# Altium footprint library PcbLib1.PcbLib: 123 footprints (part 6 of 8)
Each footprint in its own frame and in the unit in brackets; x right, y up, seen from the top. Pads: shape width x height; smd on the part's side, far side on the other; paste and mask are expansions set on the pad; w line width, h text height; cw(c..) or ccw(c..) is an arc to the next point about the centre after c.
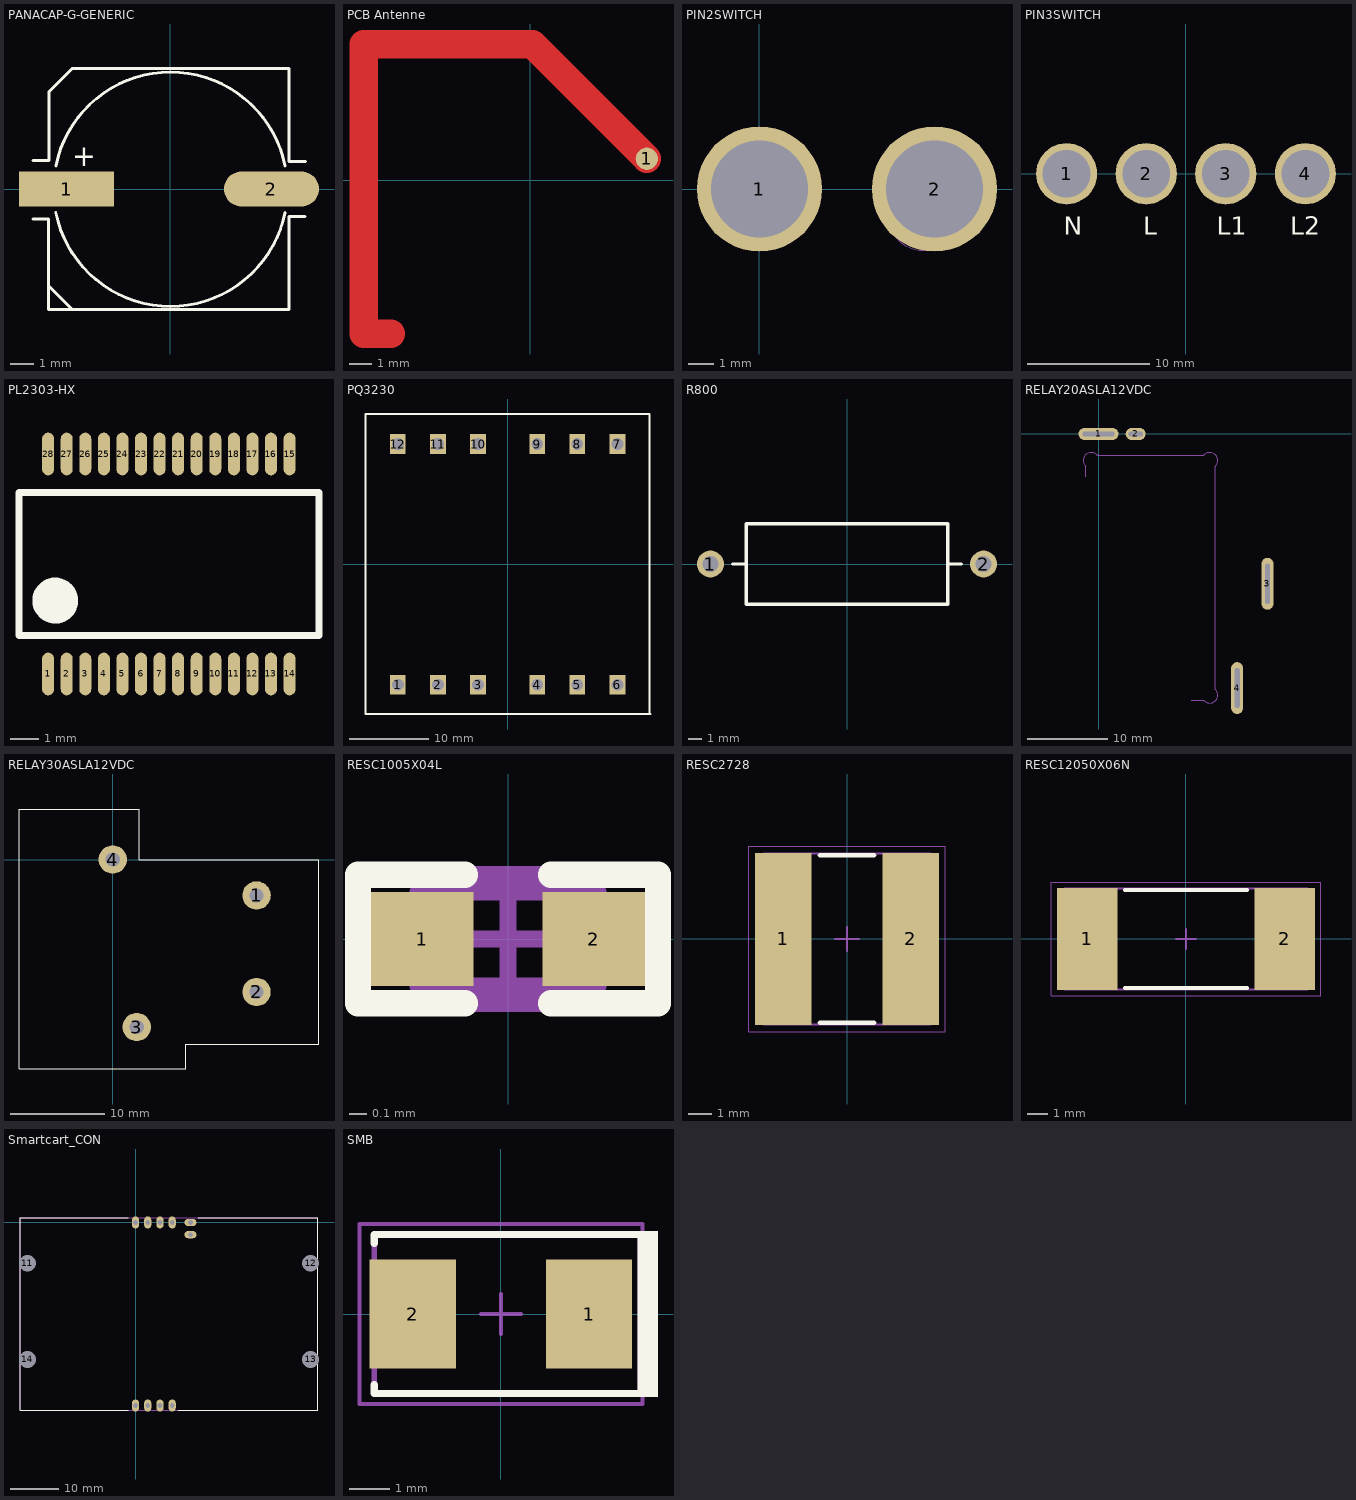
[diagram p5: the footprints below, top view; thin cyan lines are the x and y axes]

## PANACAP-G-GENERIC [mil]
pads (2):
  rect 160x59.06 smd: 1(-175,0)
  oval 160x59.06 smd: 2(170,0)
Top Overlay:
  lines w5: -231.3,-50.2 -205.71,-50.2 ; -231.3,48.23 -205.71,48.23 ; -205.71,-163.39 -205.71,-50.2 ; -205.71,-104.33 -205.71,-50.2 ; -204.72,-163.39 -165.35,-202.76 ; -204.72,48.23 -204.72,163.39 -165.35,202.76 199.8,202.76 199.8,46.26 227.36,46.26 ; -193.14,-39.37 ccw(c-0.11,-0.76) 192.91,-39.37 ; -193.03,38.61 cw(c0,0) 193.03,38.61 ; 226.38,-46.26 199.8,-46.26 ; -205.71,-202.76 199.8,-202.76 199.8,-46.26 ; -205.71,-202.76 -205.71,-202.76 ; -205.71,-202.76 -205.71,-50.2 ; -205.71,-129.92 -205.71,-129.92 ; -205.71,-129.92 -205.71,-50.2 ; 199.8,-46.26 199.8,-46.26
  text "+" at -165.35,38.39 h35
3D body: height 401.57, standoff 0, extent -233.35,-202.75 223.34,202.76

## PCB Antenne [mm]
height 4
pads (1):
  round 1 smd: 1(5.225,0.971)
Top Layer:
  lines w0.762: -7.731,-6.825 -7.477,-6.851 ; 5.2,0.907 5.2,0.945
  lines w1.27: -7.477,-6.876 -6.251,-6.876 ; -7.477,-6.851 -7.477,6.103 0.092,6.103 ; 5.225,0.971 0.092,6.103 ; 0.092,6.103 0.093,6.103

## PCBComponent_1 [mm]

## PCBComponent_1 - duplicate [mm]

## PIN2SWITCH [mm]
pads (2):
  round 5 hole 3.9: 1(0,0) 2(7,0)
Mechanical 1:
  lines w0.013: -1.005,-1.663 ccw(c-0.005,-0.048) 0.995,-1.663 ; -1.005,-1.663 -0.991,-1.655 -0.977,-1.648 -0.963,-1.639 -0.948,-1.631 -0.933,-1.623 -0.918,-1.614 -0.905,-1.606 ; -1.005,-1.663 -1.005,1.568 ; -1.005,1.568 cw(c-0.005,-0.048) 0.995,1.568 ; -1.005,1.568 -0.991,1.56 -0.977,1.552 -0.963,1.544 -0.948,1.536 -0.933,1.528 -0.918,1.519 -0.905,1.511 ; -0.905,-1.606 ccw(c-0.005,-0.048) 0.895,-1.606 ; -0.905,-1.606 -0.905,1.511 ; -0.905,1.511 cw(c-0.005,-0.048) 0.895,1.511 ; 0.895,-1.606 0.899,-1.609 0.914,-1.617 0.928,-1.625 0.942,-1.633 0.955,-1.641 0.969,-1.648 0.982,-1.656 0.995,-1.663 ; 0.895,-1.606 0.895,1.511 ; 0.895,1.511 0.91,1.52 0.924,1.528 0.938,1.536 0.952,1.544 0.966,1.551 0.979,1.559 0.992,1.566 0.995,1.568 ; 0.995,-1.663 0.995,1.568 ; 5.495,-1.663 ccw(c6.495,-0.048) 7.495,-1.663 ; 5.495,-1.663 5.506,-1.657 5.518,-1.651 5.529,-1.644 5.541,-1.638 5.552,-1.631 5.564,-1.624 5.576,-1.617 5.588,-1.61 5.595,-1.606 ; 5.495,-1.663 5.495,1.568 ; 5.495,1.568 cw(c6.495,-0.048) 7.495,1.568 ; 5.495,1.568 5.506,1.562 5.518,1.555 5.529,1.549 5.541,1.542 5.552,1.536 5.564,1.529 5.576,1.522 5.588,1.515 5.595,1.511 ; 5.595,-1.606 ccw(c6.495,-0.048) 7.395,-1.606 ; 5.595,-1.606 5.595,1.511 ; 5.595,1.511 cw(c6.495,-0.048) 7.395,1.511 ; 7.395,-1.606 7.402,-1.61 7.414,-1.617 7.426,-1.624 7.438,-1.631 7.45,-1.638 7.461,-1.644 7.473,-1.651 7.484,-1.657 7.495,-1.663 ; 7.395,-1.606 7.395,1.511 ; 7.395,1.511 7.408,1.518 7.42,1.525 7.432,1.532 7.444,1.539 7.455,1.546 7.467,1.552 7.478,1.559 7.49,1.565 7.495,1.568 ; 7.495,-1.663 7.495,1.568 ; -1.305,-1.148 ccw(c-0.005,-1.148) 1.295,-1.148 1.295,1.052 ccw(c-0.005,1.052) -1.305,1.052 -1.305,-1.148 ; 5.195,-1.148 ccw(c6.495,-1.148) 7.795,-1.148 7.795,1.052 ccw(c6.495,1.052) 5.195,1.052 5.195,-1.148

## PIN3SWITCH [mm]
pads (4):
  round 5 hole 3.9: 1(-9.75,0) 2(-3.25,0) 3(3.25,0) 4(9.75,0)
Top Overlay:
  text "L2" at 8.5,-5 h1.5
  text "L1" at 2.5,-5 h1.5
  text "L" at -3.5,-5 h1.5
  text "N" at -10,-5 h1.5
Mechanical 1:
  lines w0.013: -10.755,-1.663 ccw(c-9.755,-0.048) -8.755,-1.663 ; -10.755,-1.663 -10.755,1.568 ; -10.755,-1.663 -10.741,-1.655 -10.727,-1.648 -10.713,-1.639 -10.698,-1.631 -10.683,-1.623 -10.668,-1.614 -10.655,-1.606 ; -10.755,1.568 cw(c-9.755,-0.048) -8.755,1.568 ; -10.755,1.568 -10.741,1.56 -10.727,1.552 -10.713,1.544 -10.698,1.536 -10.683,1.528 -10.668,1.519 -10.655,1.511 ; -10.655,-1.606 ccw(c-9.755,-0.048) -8.855,-1.606 ; -10.655,-1.606 -10.655,1.511 ; -10.655,1.511 cw(c-9.755,-0.048) -8.855,1.511 ; -8.855,-1.606 -8.855,1.511 ; -8.855,-1.606 -8.851,-1.609 -8.836,-1.617 -8.822,-1.625 -8.808,-1.633 -8.795,-1.641 -8.781,-1.648 -8.768,-1.656 -8.755,-1.663 ; -8.855,1.511 -8.84,1.52 -8.826,1.528 -8.812,1.536 -8.798,1.544 -8.784,1.551 -8.771,1.559 -8.758,1.566 -8.755,1.568 ; -8.755,-1.663 -8.755,1.568 ; -4.255,-1.663 ccw(c-3.255,-0.048) -2.255,-1.663 ; -4.255,-1.663 -4.255,1.568 ; -4.255,-1.663 -4.244,-1.657 -4.232,-1.651 -4.221,-1.644 -4.209,-1.638 -4.198,-1.631 -4.186,-1.624 -4.174,-1.617 -4.162,-1.61 -4.155,-1.606 ; -4.255,1.568 cw(c-3.255,-0.048) -2.255,1.568 ; -4.255,1.568 -4.244,1.562 -4.232,1.555 -4.221,1.549 -4.209,1.542 -4.198,1.536 -4.186,1.529 -4.174,1.522 -4.162,1.515 -4.155,1.511 ; -4.155,-1.606 ccw(c-3.255,-0.048) -2.355,-1.606 ; -4.155,-1.606 -4.155,1.511 ; -4.155,1.511 cw(c-3.255,-0.048) -2.355,1.511 ; -2.355,-1.606 -2.355,1.511 ; -2.355,-1.606 -2.348,-1.61 -2.336,-1.617 -2.324,-1.624 -2.312,-1.631 -2.3,-1.638 -2.289,-1.644 -2.277,-1.651 -2.266,-1.657 -2.255,-1.663 ; -2.355,1.511 -2.342,1.518 -2.33,1.525 -2.318,1.532 -2.306,1.539 -2.295,1.546 -2.283,1.552 -2.272,1.559 -2.26,1.565 -2.255,1.568 ; -2.255,-1.663 -2.255,1.568 ; 2.245,-1.663 ccw(c3.245,-0.048) 4.245,-1.663 ; 2.245,-1.663 2.245,1.568 ; 2.245,-1.663 2.259,-1.655 2.273,-1.648 2.287,-1.639 2.302,-1.631 2.317,-1.623 2.332,-1.614 2.345,-1.606 ; 2.245,1.568 cw(c3.245,-0.048) 4.245,1.568 ; 2.245,1.568 2.259,1.56 2.273,1.552 2.287,1.544 2.302,1.536 2.317,1.528 2.332,1.519 2.345,1.511 ; 2.345,-1.606 ccw(c3.245,-0.048) 4.145,-1.606 ; 2.345,-1.606 2.345,1.511 ; 2.345,1.511 cw(c3.245,-0.048) 4.145,1.511 ; 4.145,-1.606 4.145,1.511 ; 4.145,-1.606 4.159,-1.614 4.174,-1.623 4.188,-1.631 4.203,-1.639 4.217,-1.648 4.231,-1.655 4.245,-1.663 ; 4.145,1.511 4.16,1.52 4.174,1.528 4.188,1.536 4.202,1.544 4.216,1.551 4.229,1.559 4.242,1.566 4.245,1.568 ; 4.245,-1.663 4.245,1.568 ; -11.055,-1.148 ccw(c-9.755,-1.148) -8.455,-1.148 -8.455,1.052 ccw(c-9.755,1.052) -11.055,1.052 -11.055,-1.148 ; -4.555,-1.148 ccw(c-3.255,-1.148) -1.955,-1.148 -1.955,1.052 ccw(c-3.255,1.052) -4.555,1.052 -4.555,-1.148 ; 1.945,-1.148 ccw(c3.245,-1.148) 4.545,-1.148 4.545,1.052 ccw(c3.245,1.052) 1.945,1.052 1.945,-1.148

## PL2303-HX [mil]
pads (28):
  oval 16.53x59.03 smd mask+7.9: 1(749.3,913.5) 2(774.9,913.5) 3(800.48,913.5) 4(826.08,913.5) 5(851.67,913.5) 6(877.27,913.5) 7(902.87,913.5) 8(928.45,913.5) 9(954.05,913.5) 10(979.65,913.5) 11(1005.23,913.5) 12(1030.83,913.5) 13(1056.42,913.5) 14(1082,913.5) 15(1082,1216.68) 16(1056.42,1216.68) 17(1030.83,1216.68) 18(1005.23,1216.68) 19(979.65,1216.68) 20(954.05,1216.68) 21(928.45,1216.68) 22(902.87,1216.68) 23(877.27,1216.68) 24(851.67,1216.68) 25(826.08,1216.68) 26(800.48,1216.68) 27(774.9,1216.68) 28(749.3,1216.68)
Top Overlay:
  circle w39.37: c759.15,1014.68 r11.88
  lines w10: 709.13,966.65 1122.57,966.65 1122.57,1163.52 709.13,1163.52 709.13,966.65

## PQ3230 [mm]
pads (12):
  rect 2x2.5 hole 1.5: 1(-13.905,-15.24) 2(-8.825,-15.24) 3(-3.745,-15.24) 4(3.745,-15.24) 5(8.825,-15.24) 6(13.905,-15.24) 7(13.905,15.24) 8(8.825,15.24) 9(3.745,15.24) 10(-3.745,15.24) 11(-8.825,15.24) 12(-13.905,15.24)
Top Overlay:
  lines w0.254: -18,-18.95 -18,19.05 18,19.05 18,-18.95 ; -17.9,-18.95 18.1,-18.95

## R800 [mm]
pads (2):
  round 2 hole 1.2: 1(-10.16,0) 2(10.16,0)
Top Overlay:
  lines w0.254: -8.5,0 -7.5,0 ; 7.5,0 8.5,0 ; -7.5,-3 -7.5,3 7.5,3 7.5,-3 -7.5,-3

## RELAY20ASLA12VDC [mm]
pads (4):
  oval 5x1.5 hole 0.6 slot 4 at 0 deg paste+0: 1(0,0)
  oval 2.5x1.5 hole 0.6 slot 1.8 at 0 deg paste+0: 2(4.65,0)
  oval 1.5x6.5 hole 0.6 slot 5 at 90 deg paste+0: 3(21.15,-18.75) 4(17.35,-31.8)
Mechanical 13:
  lines w0.01: 0,-0.28 0,0.28 ; 4.65,-0.28 4.65,0.28 ; 17.07,-31.8 17.63,-31.8 ; 20.87,-18.75 21.43,-18.75
  lines w0.013: -1.6,-5.358 -1.6,-4.063 cw(c-0.928,-3.322) -0.187,-2.65 13.187,-2.65 cw(c13.928,-3.322) 14.6,-4.063 14.6,-31.937 cw(c13.928,-32.678) 13.187,-33.35 11.6,-33.35 ; -1.4,-0.28 cw(c-1.4,0) -1.4,0.28 1.4,0.28 cw(c1.4,0) 1.4,-0.28 -1.4,-0.28 ; 4.15,-0.28 cw(c4.15,0) 4.15,0.28 5.15,0.28 cw(c5.15,0) 5.15,-0.28 4.15,-0.28 ; 17.07,-33.7 ccw(c17.35,-33.7) 17.63,-33.7 17.63,-33.55 17.63,-29.9 ccw(c17.35,-29.9) 17.07,-29.9 17.07,-33.7 ; 20.87,-20.65 ccw(c21.15,-20.65) 21.43,-20.65 21.43,-16.85 ccw(c21.15,-16.85) 20.87,-16.85 20.87,-20.65
3D body: height 19.8, standoff -8.5, extent -1.595,-33.68 21.305,0.37

## RELAY30ASLA12VDC [mm]
pads (4):
  round 3 hole 1.5 paste+0 mask+0: 1(15.202,-3.8) 2(15.2,-14) 3(2.54,-17.7) 4(0,0)
Top Overlay:
  lines w0.1: -9.9,-22.1 7.7,-22.1 7.7,-19.5 21.8,-19.5 21.8,0 2.8,0 2.8,5.3 -9.9,5.3 -9.9,-22.1
Mechanical 1:
  circle w0.013: c15.2,-3.8 r0.4
  circle w0.013: c2.54,-17.7 r0.85
  circle w0.013: c15.2,-14 r0.4
  circle w0.013: c0,0 r0.85

## RESC1005X04L [mm] "Chip Resistor, 2-Leads, Body 1.0x0.5mm, IPC High Density"
height 0.4
pads (2):
  rect 0.6x0.55 smd: 1(-0.5,0) 2(0.5,0)
Top Overlay:
  lines w0.152: -0.25,-0.375 -0.875,-0.375 -0.875,0.375 -0.25,0.375 ; 0.25,-0.375 0.875,-0.375 0.875,0.375 0.25,0.375
Mechanical 13:
  lines w0.1: -0.525,-0.275 -0.525,0.275 0.525,0.275 0.525,-0.275 -0.525,-0.275
Mechanical 15:
  lines w0.1: -0.275,0 0.275,0 ; 0,-0.275 0,0.275 ; -0.875,-0.375 0.875,-0.375 0.875,0.375 -0.875,0.375 -0.875,-0.375
3D body: height 0.3, standoff 0, extent -0.5,-0.25 0.5,0.25

## RESC2728 [mm] "Chip Resistor, 2-Leads, Body 6.9x7.1mm, IPC Medium Density"
height 0.6
pads (2):
  rect 2.4x7.35 smd: 1(-2.725,0) 2(2.725,0)
Top Overlay:
  lines w0.2: -1.15,-3.575 1.15,-3.575 ; -1.15,3.575 1.15,3.575
Mechanical 13:
  lines w0.1: -3.55,-3.65 3.55,-3.65 3.55,3.65 -3.55,3.65 -3.55,-3.65
Mechanical 15:
  lines w0.05: -4.2,-3.95 4.2,-3.95 4.2,3.95 -4.2,3.95 -4.2,-3.95
  lines w0.1: -0.5,0 0.5,0 ; 0,-0.5 0,0.5
3D body: height 0.6, standoff 0, extent 1.55,-3.65 3.55,3.65
3D body: height 0.6, standoff 0, extent -3.55,-3.65 -1.55,3.65
3D body: height 0.6, standoff 0, extent -1.55,-3.65 1.55,3.65

## RESC12050X06N [mm] "Chip Resistor, 2-Leads, Body 12.00x5.00mm, IPC Medium Density"
height 0.6
pads (2):
  rect 3x5.05 smd: 1(-4.875,0) 2(4.875,0)
Top Overlay:
  lines w0.2: -3,-2.425 3,-2.425 ; -3,2.425 3,2.425
Mechanical 13:
  lines w0.1: -6,-2.5 -6,2.5 6,2.5 6,-2.5 -6,-2.5
Mechanical 15:
  lines w0.05: -6.65,-2.8 -6.65,2.8 6.65,2.8 6.65,-2.8 -6.65,-2.8
  lines w0.1: -0.5,0 0.5,0 ; 0,-0.5 0,0.5
3D body: height 0.6, standoff 0, extent -3.4,-2.5 3.4,2.5
3D body: height 0.6, standoff 0, extent -6,-2.5 -3.4,2.5
3D body: height 0.6, standoff 0, extent 3.4,-2.5 6,2.5

## Smartcart_CON [mm]
pads (14):
  oval 1.5x2.5 hole 1 paste+0 mask+0: 1(0,0) 2(2.54,0) 3(5.08,0) 4(7.62,0) 5(0,-38.1) 6(2.54,-38.1) 7(5.08,-38.1) 8(7.62,-38.1)
  oval 2.5x1.5 hole 1 paste+0 mask+0: 9(11.43,0) 10(11.43,-2.54)
  round 3 hole 3.5 paste+0 mask+0: 11(-22.5,-8.5) 12(36.425,-8.5) 13(36.425,-28.5) 14(-22.5,-28.5)
Top Overlay:
  lines w0.2: -1.53,1 -24,1 -24,-39.1 -1.5,-39.1 ; 8.93,-39.1 37.93,-39.1 37.93,1 13.03,1
Mechanical 3:
  lines w0.2: -24,-39.1 -24,0.932 -23.932,1 37.93,1 37.93,0 37.93,-39.1 -24,-39.1

## SMB [mm] "Molded Diode, 2-Leads, Body 5.4x3.6mm, IPC Medium Density, based on OnSemi component dimensions"
height 2.45
pads (2):
  rect 2.159x2.743 smd: 1(2.21,0) 2(-2.21,0)
Top Overlay:
  region: 3.937,2.083 3.429,2.083 3.429,-2.083 3.937,-2.083
  lines w0.178: -3.175,-1.765 -3.175,-1.994 3.607,-1.994 ; -3.175,1.765 -3.175,1.994 3.607,1.994
Mechanical 5:
  region: 3.937,2.083 3.429,2.083 3.429,-2.083 3.937,-2.083
  lines w0.127: 3.607,-1.994 -3.175,-1.994 -3.175,-1.765 -3.175,1.765 -3.175,1.994 3.607,1.994
Mechanical 15:
  lines w0.1: -0.5,0 0.5,0 ; 0,-0.5 0,0.5 ; -3.55,-2.25 3.55,-2.25 3.55,2.25 -3.55,2.25 -3.55,-2.25
3D body: height 2.32, standoff 0.02, extent -2.7,-1.8 2.7,1.8